# EAGLE library part OPA192IDR (library OPA192IDR)
High-Voltage, Rail-to-Rail Input/Output, 5V, 0.2V/C, Precision Operational Amplifier Source: Datasheet <http://www.ti.com/lit/gpn/opa192>
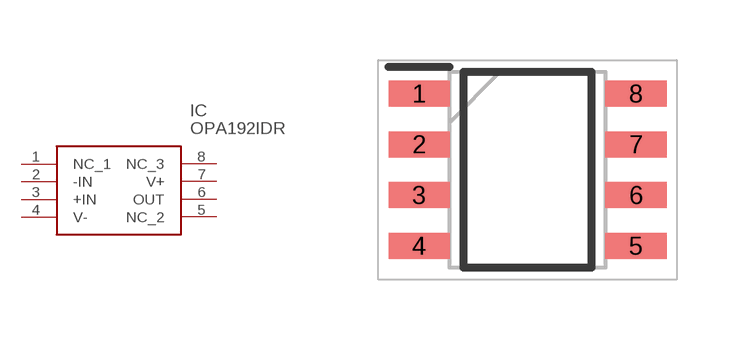
[diagram p0: symbol with the pads of SOIC127P600X175-8N; footprint SOIC127P600X175-8N]

Designator prefix IC

## OPA192IDR (Description: High-Voltage, Rail-to-Rail Input/Output, 5V, 0.2V/C, Precision Operational Amplifier; Height: 1.75mm; Manufacturer_Name: Texas Instruments; Manufacturer_Part_Number: OPA192IDR; Mouser_Part_Number: 595-OPA192IDR; Mouser_Price-Stock: https://www.mouser.co.uk/ProductDetail/Texas-Instruments/OPA192IDR?qs=wrT8kFYR77%252BLV20WgpFlnQ%3D%3D)  [SOIC127P600X175-8N]
1  NC_1
2  -IN
3  +IN
4  V-
5  NC_2
6  OUT
7  V+
8  NC_3

## Footprint SOIC127P600X175-8N (pad centres in mm)
D(R-PDSO-G)
smd 1.528 x 0.65: 1 -2.711,1.905; 2 -2.711,0.635; 3 -2.711,-0.635; 4 -2.711,-1.905; 5 2.711,-1.905; 6 2.711,-0.635; 7 2.711,0.635; 8 2.711,1.905